# Altium footprint library BMD-300.PcbLib: 1 footprints
Each footprint in its own frame and in the unit in brackets; x right, y up, seen from the top. Pads: shape width x height; smd on the part's side, far side on the other; paste and mask are expansions set on the pad; w line width, h text height; cw(c..) or ccw(c..) is an arc to the next point about the centre after c.
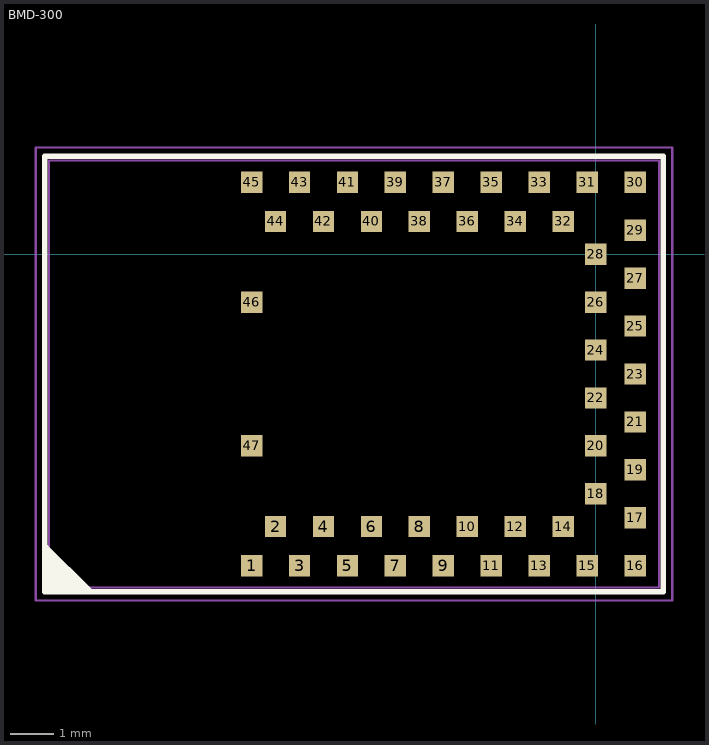
[diagram p0: the footprint, top view; thin cyan lines are the x and y axes]

## BMD-300 [mm] "BMD-300, LGA, 47pin ,1.1mm Pitch, 14mm x 9.8mm"
height 1.9
pads (47):
  rect 0.49x0.49 smd: 1(-7.9,-7.15) 2(-7.35,-6.25) 3(-6.8,-7.15) 4(-6.25,-6.25) 5(-5.7,-7.15) 6(-5.15,-6.25) 7(-4.6,-7.15) 8(-4.05,-6.25) 9(-3.5,-7.15) 10(-2.95,-6.25) 11(-2.4,-7.15) 12(-1.85,-6.25) 13(-1.3,-7.15) 14(-0.75,-6.25) 15(-0.2,-7.15) 16(0.9,-7.15) 17(0.9,-6.05) 18(0,-5.5) 19(0.9,-4.95) 20(0,-4.4) 21(0.9,-3.85) 22(0,-3.3) 23(0.9,-2.75) 24(0,-2.2) 25(0.9,-1.65) 26(0,-1.1) 27(0.9,-0.55) 28(0,0) 29(0.9,0.55) 30(0.9,1.65) 31(-0.2,1.65) 32(-0.75,0.75) 33(-1.3,1.65) 34(-1.85,0.75) 35(-2.4,1.65) 36(-2.95,0.75) 37(-3.5,1.65) 38(-4.05,0.75) 39(-4.6,1.65) 40(-5.15,0.75) 41(-5.7,1.65) 42(-6.25,0.75) 43(-6.8,1.65) 44(-7.35,0.75) 45(-7.9,1.65) 46(-7.9,-1.1) 47(-7.9,-4.4)
Top Overlay:
  region: -11.625,-7.725 -12.625,-6.725 -12.625,-7.725
  lines w0.127: -12.623,-6.717 -11.623,-7.717 ; -12.65,-7.75 1.55,-7.75 1.55,2.25 -12.65,2.25 -12.65,-7.75
Mechanical 11:
  text ".Designator" at -7.8,-2.75 h1.5
Mechanical 13:
  lines w0.05: -12.55,-7.65 1.45,-7.65 1.45,2.15 -12.55,2.15 -12.55,-7.65
Mechanical 15:
  lines w0.05: -12.85,-7.95 1.75,-7.95 1.75,2.45 -12.85,2.45 -12.85,-7.95
Multi-Layer:
  pour cut-out: -8.15,-7.65 -8.15,2.15 -12.55,2.15 -12.55,-7.65
3D body "BMD-300_assembly.STEP": height 1.89, standoff 0.05, extent -12.55,-7.65 1.45,2.15